# Altium schematic symbol library Resistor - Variable.SchLib: 1 symbol
Pins are listed as number, name and electrical type; pins without a type are passive.

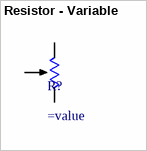
[diagram p0: symbol Resistor - Variable]

## Resistor - Variable
designator R?
pins: 1, 2, 3